# Altium schematic symbol library HW_ADHERENT_SYSCTRL_R1_L2.SCHLIB: 1987 symbols (part 37 of 38)
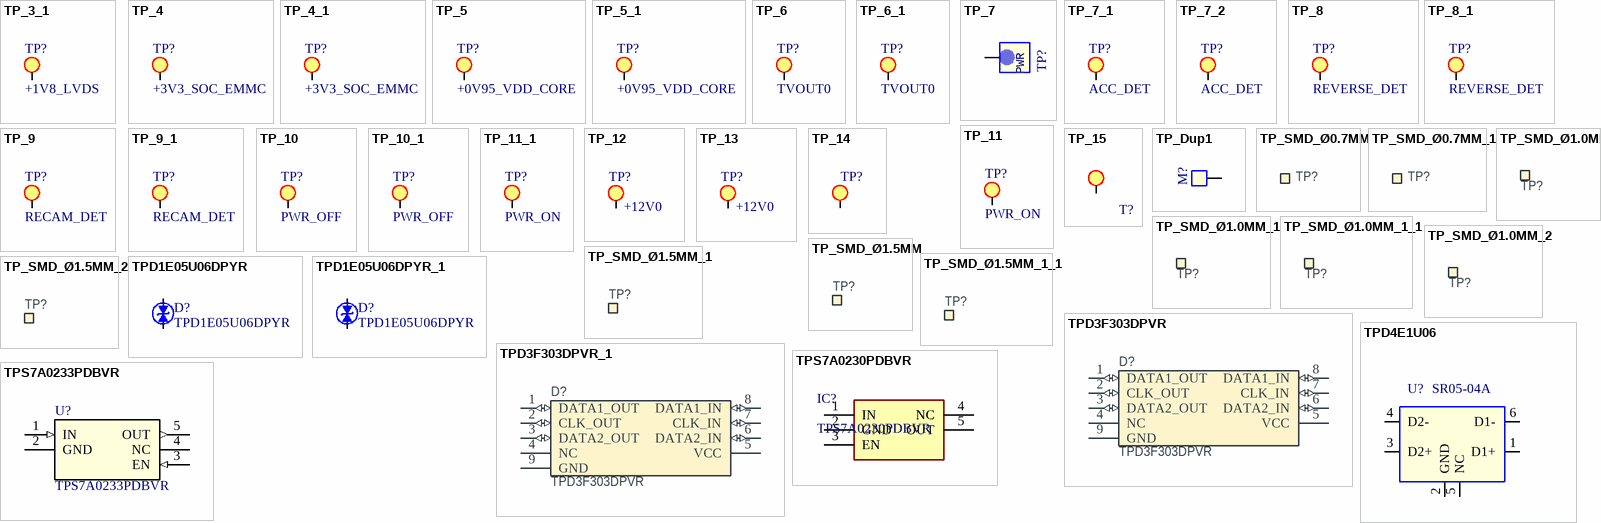
[diagram p98: symbols TP_3_1 to TPS7A0233PDBVR]

## TPD3F303DPVR_1
designator D?, comment TPD3F303DPVR
ESD Protection and EMI Filter for SIM Card Interface; Manufacturer: Texas Instruments; Part number NEMS: 101900729; Note: N.A.; Pad Count: 8; Component Status: Active; Part Number: TPD3F303DPVR; Manufacturer Part Number: TPD3F303DPVR; Footprint Doc: USON-8; LatestRevisionDate: 2022-10-19; Published: 2022-10-19; Value: TPD3F303DPVR; Artikkelnr Noca: N.A.; ComponentLink1URL: https://www.ti.com/lit/ds/symlink/tpd3f303.pdf; ComponentLink1Description: Datasheet; ComponentLink2URL: https://www.digikey.com/en/products/detail/texas-instruments/TPD3F303DPVR/2605055; ComponentLink2Description: Supplier link; HelpURL: https://www.ti.com/product/TPD3F303/part-details/TPD3F303DPVR; Supplier 1: Digi-Key; Supplier Part Number 1: 296-28299-1-ND; Supplier 2: Mouser; Supplier Part Number 2: 595-TPD3F303DPVR; Part number IPS: N.A.; PartId: 101900729; Component Class: Misc_ICs; Author: rubr; Part number Norautron: N.A.
footprint SON50P210X160X65_HS-9N
pins: 1 DATA1_OUT (io), 2 CLK_OUT (io), 3 DATA2_OUT (io), 4 NC, 5 VCC (power), 6 DATA2_IN (io), 7 CLK_IN (io), 8 DATA1_IN (io), 9 GND (power)

## TPD4E1U06
designator U?, comment SR05-04A
IC,Quad-Channel,High-Speed ESD Protection Device,SMD,SOT23-6,UN; RP1 Manufacturer P/N: TPD4E1U06DBVR; RP1 Myir P/N: 20114.00004; Myir P/N: 20114.00013; Datasheet: SR05-04A.pdf; Reserve Value: SR05-04A; Manufacturer P/N: SR05-04A; Manufacturer: UN; Part Type: Protection; PCB Footprint: SOT23-6
footprint SOT23-6
pins: 1 D1+, 2 GND, 3 D2+, 4 D2-, 5 NC, 6 D1-

## TPS7A0230PDBVR
designator IC?
Linear Voltage Regulator IC Positive Fixed 1 Output 200mA SOT-23-5; Manufacturer_Name: Texas Instruments; Datasheet Link: https://www.ti.com/lit/gpn/TPS7A02; Height: 1.45mm; Manufacturer_Part_Number: TPS7A0230PDBVR; Mouser Part Number: 595-TPS7A0230PDBVR; Mouser Price/Stock: https://www.mouser.co.uk/ProductDetail/Texas-Instruments/TPS7A0230PDBVR?qs=OlC7AqGiEDnndYJaykm%252BtA%3D%3D; Arrow Part Number: TPS7A0230PDBVR; Arrow Price/Stock: https://www.arrow.com/en/products/tps7a0230pdbvr/texas-instruments?utm_currency=USD&region=nac
footprint SOT95P280X145-5N
pins: 1 IN, 2 GND, 3 EN, 4 NC, 5 OUT

## TPS7A0233PDBVR
designator U?
200mA, nanopower-IQ (25 nA), low-dropout (LDO) voltage regulator with enable 5-SOT-23 -40 to 125; Manufacturer_Name: Texas Instruments; Copyright: Copyright (C) 2025 Ultra Librarian. All rights reserved.; Manufacturer_Part_Number: TPS7A0233PDBVR; RefDes: RefDes; Type: Type
footprint SOT23_DBV_TEX
pins: 1 IN (in), 2 GND (power), 3 EN (in), 4 NC, 5 OUT (out)

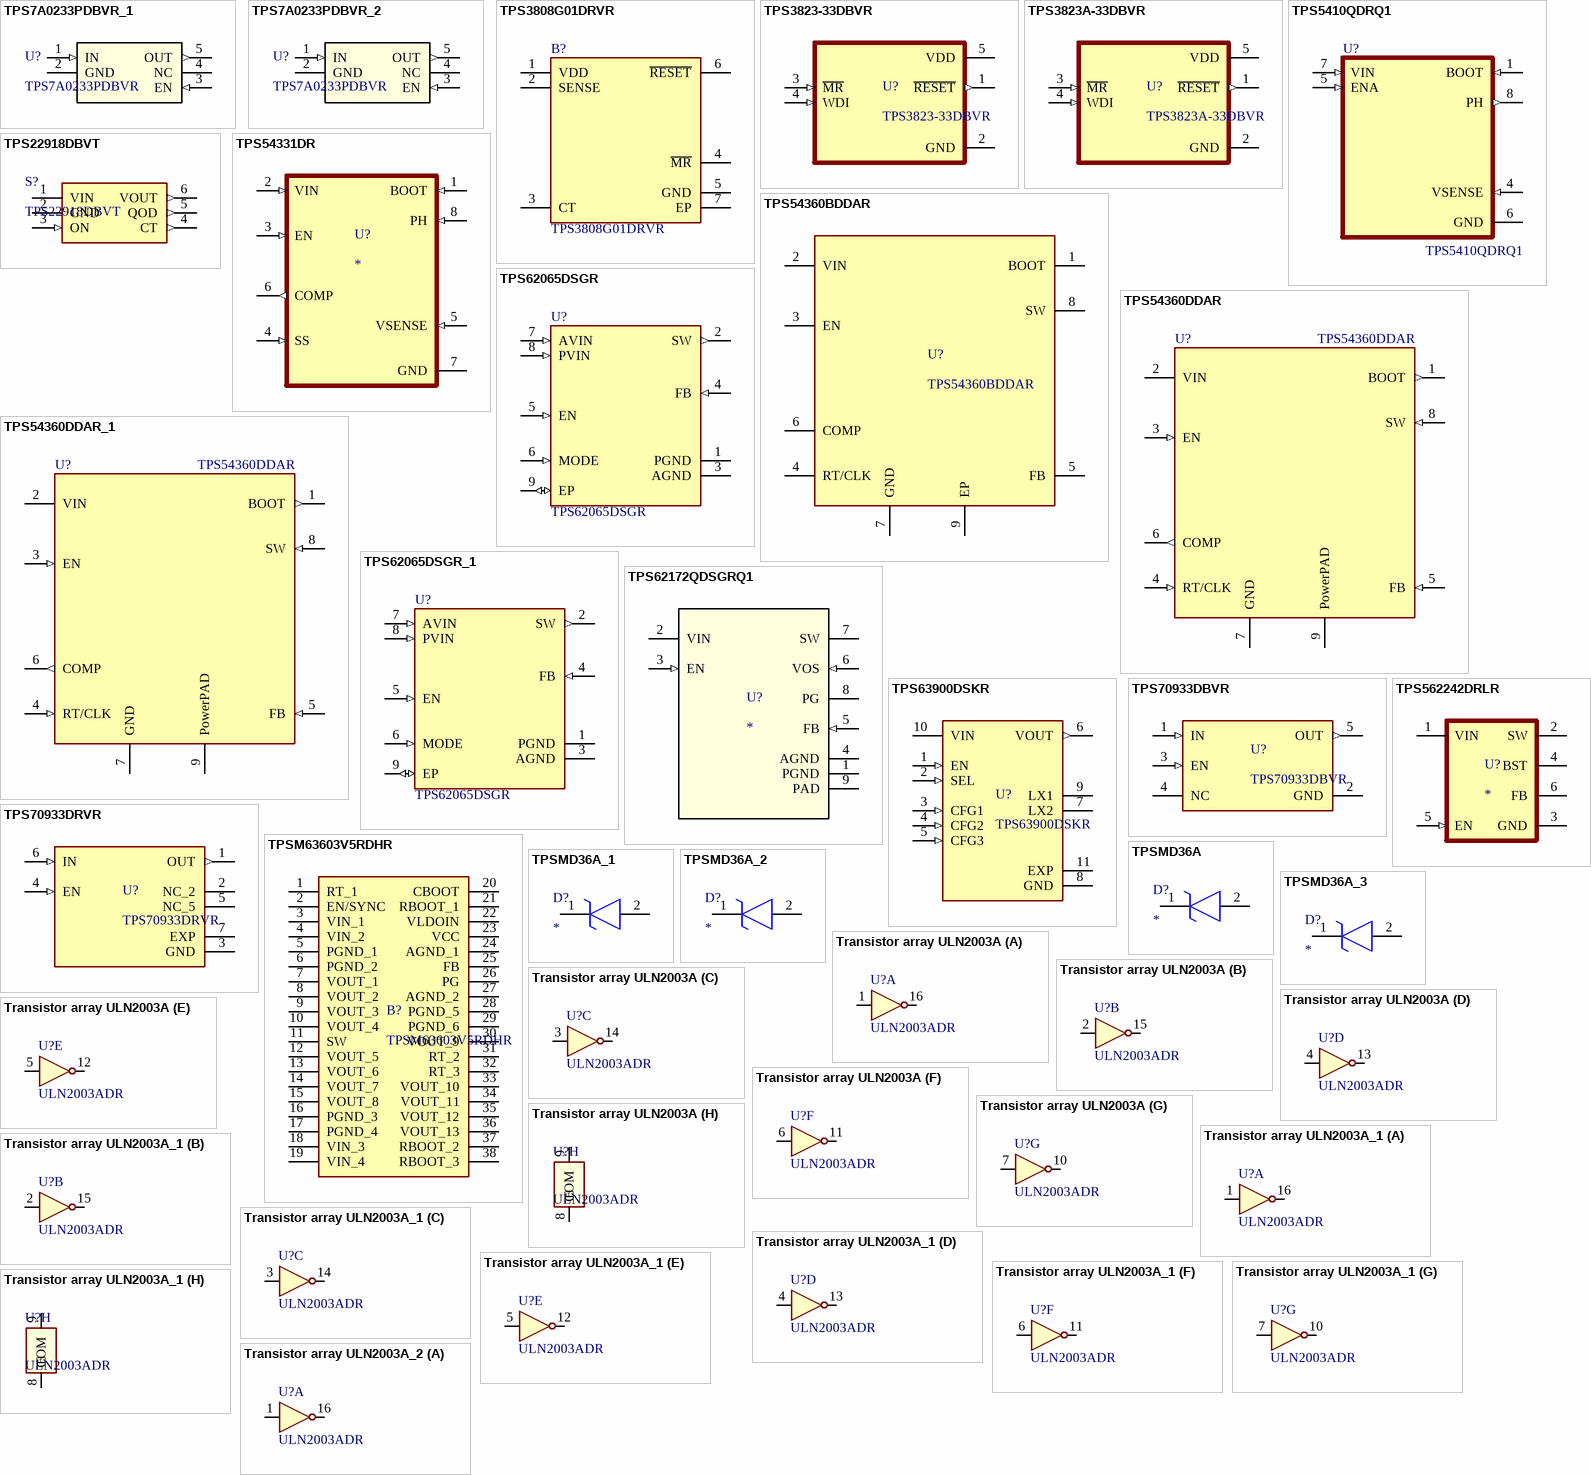
[diagram p59: symbols TPS7A0233PDBVR_1 to Transistor array ULN2003A_2]

## TPS7A0233PDBVR_1
designator U?, comment TPS7A0233PDBVR
200mA, nanopower-IQ (25 nA), low-dropout (LDO) voltage regulator with enable 5-SOT-23 -40 to 125; Manufacturer_Name: Texas Instruments; Copyright: Copyright (C) 2025 Ultra Librarian. All rights reserved.; Manufacturer_Part_Number: TPS7A0233PDBVR; RefDes: RefDes; Type: Type
footprint SOT23_DBV_TEX
pins: 1 IN (in), 2 GND (power), 3 EN (in), 4 NC, 5 OUT (out)

## TPS7A0233PDBVR_2
designator U?, comment TPS7A0233PDBVR
200mA, nanopower-IQ (25 nA), low-dropout (LDO) voltage regulator with enable 5-SOT-23 -40 to 125; Manufacturer_Name: Texas Instruments; Copyright: Copyright (C) 2025 Ultra Librarian. All rights reserved.; Manufacturer_Part_Number: TPS7A0233PDBVR; RefDes: RefDes; Type: Type
footprint SOT23_DBV_TEX
pins: 1 IN (in), 2 GND (power), 3 EN (in), 4 NC, 5 OUT (out)

## TPS3808G01DRVR
designator B?
Low-quiescent current supervisor with programmable-delay and manual reset; Manufacturer_Name: Texas Instruments; Geometry.Height: 0.8mm; Manufacturer Part Number: TPS3808G01DRVR; Mouser Part Number: 595-TPS3808G01DRVR; Mouser Price/Stock: https://www.mouser.co.uk/ProductDetail/Texas-Instruments/TPS3808G01DRVR?qs=nRD1PKnFC2FrHLBhWUTt4Q%3D%3D; Arrow Part Number: TPS3808G01DRVR; Arrow Price/Stock: https://www.arrow.com/en/products/tps3808g01drvr/texas-instruments?region=nac; Datasheet Link: http://www.ti.com/lit/gpn/tps3808
footprint SON65P200X200X80-7N
pins: 1 VDD, 2 SENSE, 3 CT, 4 ~{MR}, 5 GND, 6 ~{RESET}, 7 EP

## TPS3823-33DBVR
designator U?
Active-low, push-pull, voltage supervisor (reset IC) with 1.6-s watchdog & manual reset; MF: Texas Instruments; SnapEDA_Link: https://www.snapeda.com/parts/TPS3823-33DBVR/Texas+Instruments/view-part/?ref=snap; Package: SOT-23-5 Texas Instruments; Value: *; MP: TPS3823-33DBVR; Check_prices: https://www.snapeda.com/parts/TPS3823-33DBVR/Texas+Instruments/view-part/?ref=eda
footprint SOT95P280X145-5N
pins: 1 ~{RESET} (out), 2 GND (power), 3 ~{MR} (in), 4 WDI (in), 5 VDD (power)

## TPS3823A-33DBVR
designator U?
MF: {'manufacturer': u'Texas Instruments'}; Package: None; Price: None; Value: *; MP: TPS3823A-33DBVR; Availability: Unavailable
footprint SOT95P280X145-5N
pins: 1 ~{RESET} (out), 2 GND (power), 3 ~{MR} (in), 4 WDI (in), 5 VDD (power)

## TPS5410QDRQ1
designator U?, comment Manufacturer Part Number: TPS5410QDRQ1  (hidden comment: IC REG BUCK ADJUSTABLE 1A 8SOIC)
Automotive 5.5V to 36V, 500kHz Fixed Frequency 1A Buck Converter 8-SOIC -40 to 125; MF: Texas Instruments; Value: *; Arrow_Electronics-Purchase-URL: https://snapeda.com/shop?store=Arrow+Electronics&id=1232664; Price: None; Availability: Good; Mouser-Purchase-URL: https://snapeda.com/shop?store=Mouser&id=1232664; Texas_Instruments-Purchase-URL: https://snapeda.com/shop?store=Texas+Instruments&id=1232664; SnapEDA_Link: https://www.snapeda.com/parts/TPS5410QDRQ1/Texas%20Instruments/view-part/1232664/?ref=snap; Package: SOIC-8 Texas Instruments
footprint SOIC127P599X175-8N
pins: 1 BOOT (in), 4 VSENSE (in), 5 ENA (in), 6 GND (power), 7 VIN (in), 8 PH (out)

## TPS22918DBVT
designator S?
Power Switch/Driver 1:1 N-Channel 2A SOT-23-6; Manufacturer_Name: Texas Instruments; Datasheet Link: http://www.ti.com/lit/gpn/tps22918; Height: 1.45mm; Manufacturer_Part_Number: TPS22918DBVT; Mouser Part Number: 595-TPS22918DBVT; Mouser Price/Stock: https://www.mouser.co.uk/ProductDetail/Texas-Instruments/TPS22918DBVT?qs=f4l5qYp%2Fy%252B5OmR4LO0ZvPg%3D%3D; Arrow Part Number: TPS22918DBVT; Arrow Price/Stock: https://www.arrow.com/en/products/tps22918dbvt/texas-instruments.html?utm_currency=USD&region=nac
footprint SOT95P280X145-6N
pins: 1 VIN (power), 2 GND (power), 3 ON (in), 4 CT (out), 5 QOD (out), 6 VOUT (out)

## TPS54331DR
designator U?
3.5V to 28V Input, 3A, 570kHz Step-Down Converter with Eco-mode; MF: Texas Instruments; MP: TPS54331DR; Purchase-URL: https://pricing.snapeda.com/search/part/TPS54331DR/?ref=eda; Package: SOIC-8 Texas Instruments; Price: None; Availability: In Stock; Value: *
footprint SOIC127P599X175-8N
pins: 1 BOOT (in), 2 VIN (in), 3 EN (in), 4 SS (in), 5 VSENSE (in), 6 COMP (out), 7 GND (power), 8 PH (in)

## TPS54360BDDAR
designator U?
60-V input, 3.5-A, step-down DC/DC converter with Eco-Mode™ 8-SO PowerPAD -40 to 150; Manufacturer: Texas Instruments; Supplier 1: Digikey; Manufacturer Part Number: TPS54360BDDAR; RoHS: Yes; Category: Voltage Regulators - Switching; Stock 1: 2500; Pricing 1: 2500=2.34003 (USD); ComponentLink1URL: http://www.ti.com/general/docs/suppproductinfo.tsp?distId=10&amp;gotoUrl=http%3A%2F%2Fwww.ti.com%2Flit%2Fgpn%2Ftps54360b&src-supplier=Digikey; ComponentLink1Description: http://www.ti.com/general/docs/suppproductinfo.tsp?distId=10&amp;gotoUrl=http%3A%2F%2Fwww.ti.com%2Flit%2Fgpn%2Ftps54360b&src-supplier=Digikey; Supplier Part Number 1: 296-TPS54360BDDARTR-ND
footprint SOIC127P600X170-9N
pins: 1 BOOT, 2 VIN, 3 EN, 4 RT/CLK, 5 FB, 6 COMP, 7 GND, 8 SW, 9 EP

## TPS54360DDAR
designator U?
Buck, Split Rail Switching Regulator IC Positive Adjustable 0.8V 1 Output 3.5A 8-PowerSOIC (0.154", 3.90mm Width); Order Code: Digi: 296-37676-2-ND; LCSC Manufacturer Part Number: TPS54360DDAR; LCSC Part Number: C44377; Manufacturer Part Number: TPS54360DDAR
footprint S8E_LT
pins: 1 BOOT (out), 2 VIN (power), 3 EN (in), 4 RT/CLK (in), 5 FB (in), 6 COMP (out), 7 GND (power), 8 SW (in), 9 PowerPAD (power)

## TPS54360DDAR_1
designator U?, comment TPS54360DDAR
Buck, Split Rail Switching Regulator IC Positive Adjustable 0.8V 1 Output 3.5A 8-PowerSOIC (0.154", 3.90mm Width); Order Code: Digi: 296-37676-2-ND; LCSC Manufacturer Part Number: TPS54360DDAR; LCSC Part Number: C44377; Manufacturer Part Number: TPS54360DDAR
footprint S8E_LT
pins: 1 BOOT (out), 2 VIN (power), 3 EN (in), 4 RT/CLK (in), 5 FB (in), 6 COMP (out), 7 GND (power), 8 SW (in), 9 PowerPAD (power)

## TPS62065DSGR
designator U?, comment Manufacturer Part Number: TPS62065DSGR  (hidden comment: IC REG BUCK ADJUSTABLE 2A 8WSON)
Buck Switching Regulator IC Positive Adjustable 0.8V 1 Output 2A 8-WFDFN Exposed Pad; Order Code: Digi: 296-39441-2-ND; LCSC Manufacturer Part Number: TPS62065DSGR; LCSC Part Number: C398352
footprint SON50P200X200X80-9N
pins: 1 PGND (power), 2 SW (out), 3 AGND (power), 4 FB (in), 5 EN (in), 6 MODE (in), 7 AVIN (in), 8 PVIN (in), 9 EP (io)

## TPS62065DSGR_1
designator U?, comment Manufacturer Part Number: TPS62065DSGR  (hidden comment: IC REG BUCK ADJUSTABLE 2A 8WSON)
Buck Switching Regulator IC Positive Adjustable 0.8V 1 Output 2A 8-WFDFN Exposed Pad; Order Code: Digi: 296-39441-2-ND; LCSC Manufacturer Part Number: TPS62065DSGR; LCSC Part Number: C398352
footprint SON50P200X200X80-9N
pins: 1 PGND (power), 2 SW (out), 3 AGND (power), 4 FB (in), 5 EN (in), 6 MODE (in), 7 AVIN (in), 8 PVIN (in), 9 EP (io)

## TPS62172QDSGRQ1
designator U?
No Description Available; Mfr_Name: Texas Instruments; PartNumber: TPS62172QDSGRQ1; Alternate_PartNumber: TPS62172QDSGTQ1; CompType: IC; TYPE: TYPE; RefDes: RefDes; Application_BuildNumber: *; PackageReference: DSG0008A; MountType: SMT; RoHS: Y; Manufacturer: Texas Instruments
footprint DSG0008A
pins: 1 PGND (power), 2 VIN (power), 3 EN (in), 4 AGND (power), 5 FB (in), 6 VOS (in), 7 SW (power), 8 PG (hiz), 9 PAD (power)

## TPS63900DSKR
designator U?
1.8-V to 5.5-V, 75-nA IQ buck-boost converter with input current limit and Dynamic Voltage Scaling; MF: Texas Instruments; SnapEDA_Link: https://www.snapeda.com/parts/TPS63900DSKR/Texas+Instruments/view-part/?ref=snap; Package: WSON-10 Texas Instruments; Value: *; MP: TPS63900DSKR; Check_prices: https://www.snapeda.com/parts/TPS63900DSKR/Texas+Instruments/view-part/?ref=eda
footprint IC_TPS63900DSKR
pins: 1 EN (in), 2 SEL (in), 3 CFG1 (in), 4 CFG2 (in), 5 CFG3 (in), 6 VOUT (out), 7 LX2, 8 GND (power), 9 LX1, 10 VIN (power), 11 EXP (power)

## TPS70933DBVR
designator U?
150-mA, 30-V, ultra-low-IQ, low-dropout voltage regulator with reverse current protection and enable; MF: Texas Instruments; SnapEDA_Link: https://www.snapeda.com/parts/TPS70933DBVR/Texas+Instruments/view-part/?ref=snap; Package: SOT-23-5 Texas Instruments; Value: *; MP: TPS70933DBVR; Check_prices: https://www.snapeda.com/parts/TPS70933DBVR/Texas+Instruments/view-part/?ref=eda; LCSC: C89347
footprint SOT95P280X145-5N
pins: 1 IN (in), 2 GND (power), 3 EN (in), 4 NC, 5 OUT (out)

## TPS70933DRVR
designator U?
150-mA, 30-V, ultra-low-IQ, low-dropout voltage regulator with reverse current protection and enable; MF: Texas Instruments; SnapEDA_Link: https://www.snapeda.com/parts/TPS70933DRVR/Texas+Instruments/view-part/?ref=snap; Package: WSON-6 Texas Instruments; Value: *; MP: TPS70933DRVR; Check_prices: https://www.snapeda.com/parts/TPS70933DRVR/Texas+Instruments/view-part/?ref=eda; LCSC: C165164
footprint SON65P200X200X80-7N
pins: 1 OUT (out), 2 NC_2, 3 GND (power), 4 EN (in), 5 NC_5, 6 IN (in), 7 EXP (power)

## TPS562242DRLR
designator U?
3-V to 17-V input voltage, 2-A, 1.4-MHz synchronous buck converter in SOT563; MF: Texas Instruments; MP: TPS562242DRLR; SnapEDA_Link: https://www.snapeda.com/parts/TPS562242DRLR/Texas+Instruments/view-part/?ref=snap; Package: SOT-5X3-6 Texas Instruments; Value: *; Check_prices: https://www.snapeda.com/parts/TPS562242DRLR/Texas+Instruments/view-part/?ref=eda
footprint SOT50P160X60-6N
pins: 1 VIN (power), 2 SW (power), 3 GND (power), 4 BST, 5 EN (in), 6 FB

## TPSM63603V5RDHR
designator B?
High-density, 3-V to 36-V input, 1-V to 16-V output, 3-A power module 30-B0QFN -40 to 125; Manufacturer: Texas Instruments; Supplier 1: Digikey; Manufacturer Part Number: TPSM63603V5RDHR; RoHS: No; Category: Integrated Circuits (ICs); Stock 1: 2582; Pricing 1: 1=8.77, 10=7.926, 25=7.5572, 100=6.562, 250=6.26704, 500=5.71408, 1000=4.97678 (USD); Supplier Part Number 1: 296-TPSM63603V5RDHRDKR-ND
footprint TPSM63603V5RDHR
pins: 1 RT_1, 2 EN/SYNC, 3 VIN_1, 4 VIN_2, 5 PGND_1, 6 PGND_2, 7 VOUT_1, 8 VOUT_2, 9 VOUT_3, 10 VOUT_4, 11 SW, 12 VOUT_5, 13 VOUT_6, 14 VOUT_7, 15 VOUT_8, 16 PGND_3, 17 PGND_4, 18 VIN_3, 19 VIN_4, 20 CBOOT, 21 RBOOT_1, 22 VLDOIN, 23 VCC, 24 AGND_1, 25 FB, 26 PG, 27 AGND_2, 28 PGND_5, 29 PGND_6, 30 VOUT_9, 31 RT_2, 32 RT_3, 33 VOUT_10, 34 VOUT_11, 35 VOUT_12, 36 VOUT_13, 37 RBOOT_2, 38 RBOOT_3

## TPSMD36A
designator D?
TVS Diode (Uni-directional); Manufacturer_Name: LITTELFUSE; Manufacturer_Part_Number: TPSMD36A; Datasheet Link: https://m.littelfuse.com/~/media/electronics/datasheets/tvs_diodes/littelfuse_tvs_diode_tpsmd_datasheet.pdf.pdf; Height: 2.62mm; Mouser Part Number: 576-TPSMD36A; Mouser Price/Stock: https://www.mouser.co.uk/ProductDetail/Littelfuse/TPSMD36A/?qs=aB6s9aM%2FkvTMcsXSVOJYGg%3D%3D; Arrow Part Number: TPSMD36A; Arrow Price/Stock: https://www.arrow.com/en/products/tpsmd36a/littelfuse
footprint DIOM7959X262N
pins: 1 K, 2 A

## TPSMD36A_1
designator D?
TVS Diode (Uni-directional); Manufacturer_Name: LITTELFUSE; Manufacturer_Part_Number: TPSMD36A; Datasheet Link: https://m.littelfuse.com/~/media/electronics/datasheets/tvs_diodes/littelfuse_tvs_diode_tpsmd_datasheet.pdf.pdf; Height: 2.62mm; Mouser Part Number: 576-TPSMD36A; Mouser Price/Stock: https://www.mouser.co.uk/ProductDetail/Littelfuse/TPSMD36A/?qs=aB6s9aM%2FkvTMcsXSVOJYGg%3D%3D; Arrow Part Number: TPSMD36A; Arrow Price/Stock: https://www.arrow.com/en/products/tpsmd36a/littelfuse
footprint DIOM7959X262N
pins: 1 K, 2 A

## TPSMD36A_2
designator D?
TVS Diode (Uni-directional); Manufacturer_Name: LITTELFUSE; Manufacturer_Part_Number: TPSMD36A; Datasheet Link: https://m.littelfuse.com/~/media/electronics/datasheets/tvs_diodes/littelfuse_tvs_diode_tpsmd_datasheet.pdf.pdf; Height: 2.62mm; Mouser Part Number: 576-TPSMD36A; Mouser Price/Stock: https://www.mouser.co.uk/ProductDetail/Littelfuse/TPSMD36A/?qs=aB6s9aM%2FkvTMcsXSVOJYGg%3D%3D; Arrow Part Number: TPSMD36A; Arrow Price/Stock: https://www.arrow.com/en/products/tpsmd36a/littelfuse
footprint DIOM7959X262N
pins: 1 K, 2 A

## TPSMD36A_3
designator D?
TVS Diode (Uni-directional); Manufacturer_Name: LITTELFUSE; Manufacturer_Part_Number: TPSMD36A; Datasheet Link: https://m.littelfuse.com/~/media/electronics/datasheets/tvs_diodes/littelfuse_tvs_diode_tpsmd_datasheet.pdf.pdf; Height: 2.62mm; Mouser Part Number: 576-TPSMD36A; Mouser Price/Stock: https://www.mouser.co.uk/ProductDetail/Littelfuse/TPSMD36A/?qs=aB6s9aM%2FkvTMcsXSVOJYGg%3D%3D; Arrow Part Number: TPSMD36A; Arrow Price/Stock: https://www.arrow.com/en/products/tpsmd36a/littelfuse
footprint DIOM7959X262N
pins: 1 K, 2 A

## Transistor array ULN2003A
designator U?, comment ULN2003ADR
IC PWR RELAY 7NPN 1:1 16SOIC; Manufacturer: Texas Instruments; Value: ULN2003ADR; Manufacturer Part Number: ULN2003ADR; Supplier Part Number: 296-1368-1-ND
footprint SOIC-16 - W3.9mm (SI8631AB-B-IS1)
part A pins: 1 1B, 16 2C
part B pins: 2 2B, 15 2C
part C pins: 3 3B, 14 3C
part D pins: 4 4B, 13 4C
part E pins: 5 5B, 12 5C
part F pins: 6 6B, 11 6C
part G pins: 7 7B, 10 7C
part H pins: 8 E, 9 COM

## Transistor array ULN2003A_1
designator U?, comment ULN2003ADR
IC PWR RELAY 7NPN 1:1 16SOIC; Manufacturer: Texas Instruments; Value: ULN2003ADR; Manufacturer Part Number: ULN2003ADR; Supplier Part Number: 296-1368-1-ND
footprint SOIC-16 - W3.9mm (SI8631AB-B-IS1)
part A pins: 1 1B, 16 2C
part B pins: 2 2B, 15 2C
part C pins: 3 3B, 14 3C
part D pins: 4 4B, 13 4C
part E pins: 5 5B, 12 5C
part F pins: 6 6B, 11 6C
part G pins: 7 7B, 10 7C
part H pins: 8 E, 9 COM

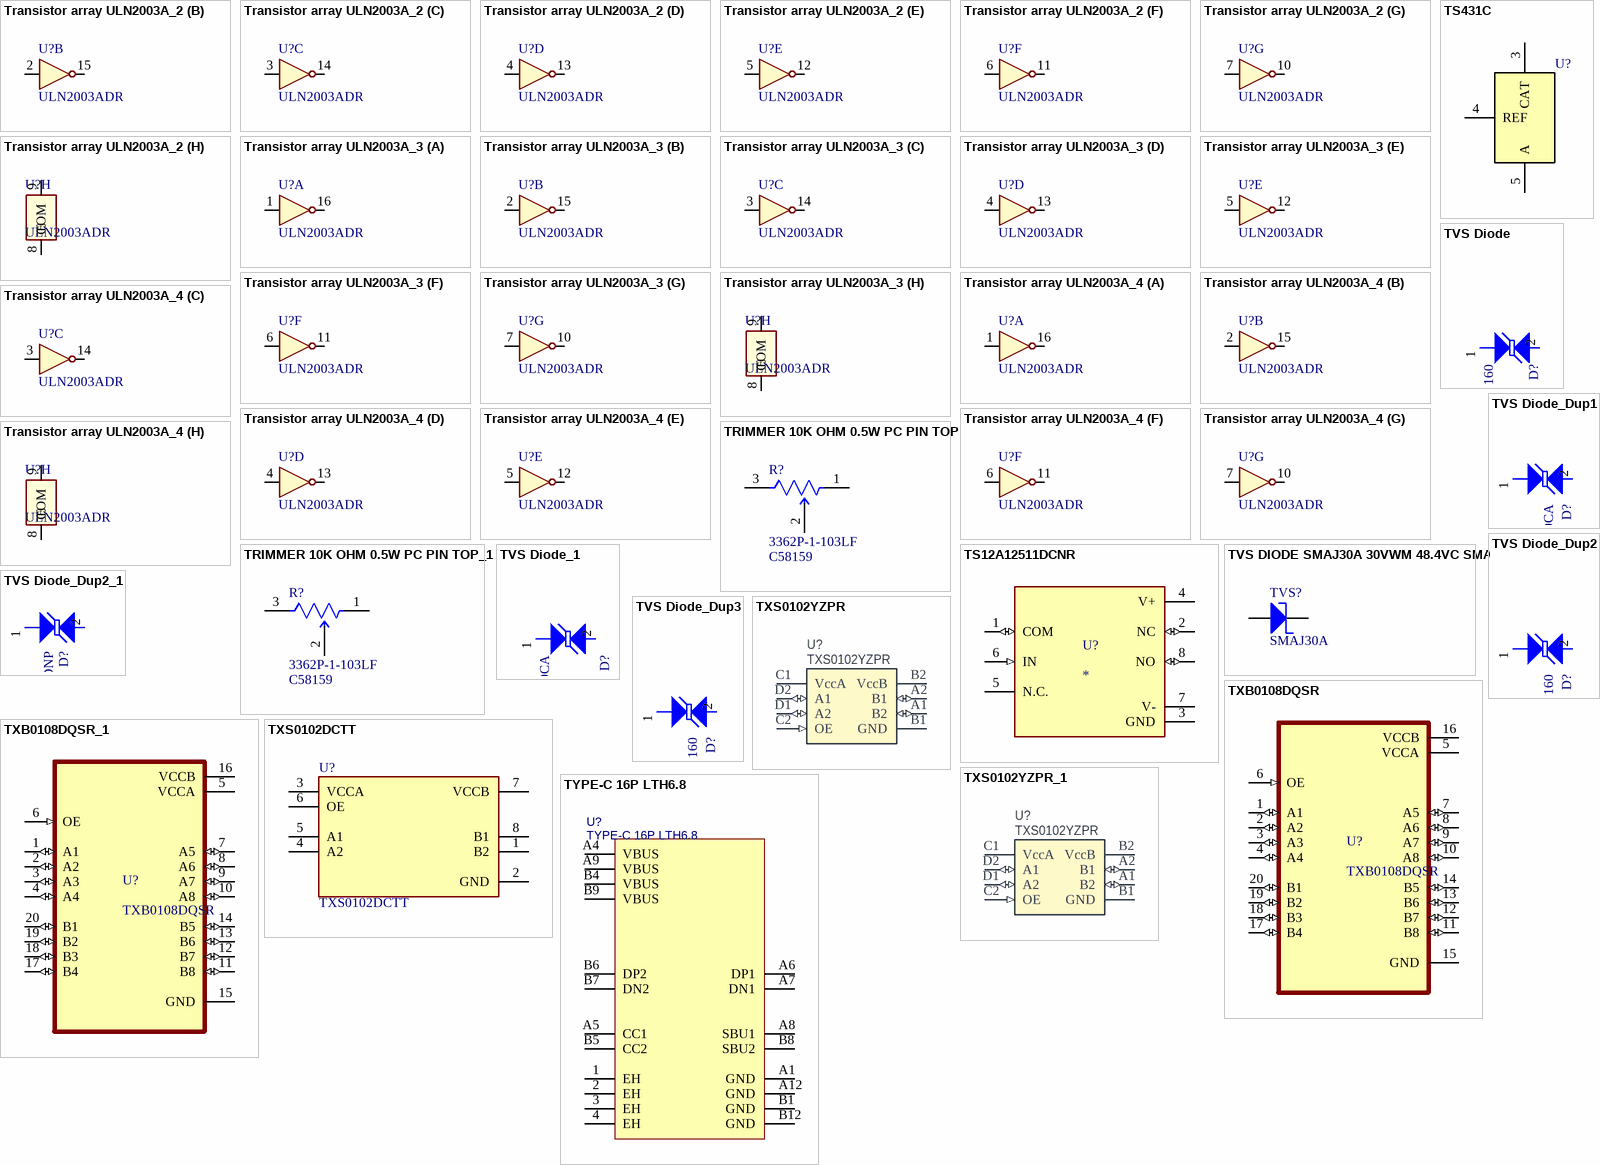
[diagram p60: symbols Transistor array ULN2003A_2 to TYPE-C 16P LTH6.8]

## Transistor array ULN2003A_2
designator U?, comment ULN2003ADR
IC PWR RELAY 7NPN 1:1 16SOIC; Manufacturer: Texas Instruments; Value: ULN2003ADR; Manufacturer Part Number: ULN2003ADR; Supplier Part Number: 296-1368-1-ND
footprint SOIC-16 - W3.9mm (SI8631AB-B-IS1)
part A pins: 1 1B, 16 2C
part B pins: 2 2B, 15 2C
part C pins: 3 3B, 14 3C
part D pins: 4 4B, 13 4C
part E pins: 5 5B, 12 5C
part F pins: 6 6B, 11 6C
part G pins: 7 7B, 10 7C
part H pins: 8 E, 9 COM

## Transistor array ULN2003A_3
designator U?, comment ULN2003ADR
IC PWR RELAY 7NPN 1:1 16SOIC; Manufacturer: Texas Instruments; Value: ULN2003ADR; Manufacturer Part Number: ULN2003ADR; Supplier Part Number: 296-1368-1-ND
footprint SOIC-16 - W3.9mm (SI8631AB-B-IS1)
part A pins: 1 1B, 16 2C
part B pins: 2 2B, 15 2C
part C pins: 3 3B, 14 3C
part D pins: 4 4B, 13 4C
part E pins: 5 5B, 12 5C
part F pins: 6 6B, 11 6C
part G pins: 7 7B, 10 7C
part H pins: 8 E, 9 COM

## Transistor array ULN2003A_4
designator U?, comment ULN2003ADR
IC PWR RELAY 7NPN 1:1 16SOIC; Manufacturer: Texas Instruments; Value: ULN2003ADR; Manufacturer Part Number: ULN2003ADR; Supplier Part Number: 296-1368-1-ND
footprint SOIC-16 - W3.9mm (SI8631AB-B-IS1)
part A pins: 1 1B, 16 2C
part B pins: 2 2B, 15 2C
part C pins: 3 3B, 14 3C
part D pins: 4 4B, 13 4C
part E pins: 5 5B, 12 5C
part F pins: 6 6B, 11 6C
part G pins: 7 7B, 10 7C
part H pins: 8 E, 9 COM

## TRIMMER 10K OHM 0.5W PC PIN TOP
designator R?  Manufacturer Part Number: 3362P-1-103LF  LCSC Part Number: C58159  (hidden comment: TRIMMER 10K OHM 0.5W PC PIN TOP)
10 kOhms 0.5W, 1/2W PC Pins Through Hole Trimmer Potentiometer Cermet 1.0 Turn Top Adjustment
footprint Bourns_3386P_MFG
pins: 1 CCW, 2 WIPER, 3 CW

## TRIMMER 10K OHM 0.5W PC PIN TOP_1
designator R?, comment Manufacturer Part Number: 3362P-1-103LF  LCSC Part Number: C58159  (hidden comment: TRIMMER 10K OHM 0.5W PC PIN TOP)
10 kOhms 0.5W, 1/2W PC Pins Through Hole Trimmer Potentiometer Cermet 1.0 Turn Top Adjustment
footprint Bourns_3386P_MFG
pins: 1 CCW, 2 WIPER, 3 CW

## TS12A12511DCNR
designator U?
12-V, 2:1 (SPDT), 1-channel analog switch with negative signaling capability; MF: Texas Instruments; MP: TS12A12511DCNR; SnapEDA_Link: https://www.snapeda.com/parts/TS12A12511DCNR/Texas+Instruments/view-part/?ref=snap; Package: SOT-23-8 Texas Instruments; Value: *; Check_prices: https://www.snapeda.com/parts/TS12A12511DCNR/Texas+Instruments/view-part/?ref=eda
footprint SOT65P280X145-8N
pins: 1 COM (io), 2 NC (io), 3 GND (power), 4 V+ (power), 5 N.C., 6 IN (in), 7 V- (power), 8 NO (io)

## TS431C
designator U?
footprint SOT-25
pins: 3 CAT, 4 REF, 5 A

## TVS Diode
designator D?, comment B72590D50H160
Diode,TVS,5.6VDC,SMD,D0402,TDK; Myir P/N: 20701.00001; Part Type: Diode; Manufacturer: TDK; Manufacturer P/N: B72590D50H160; Reserve Value: B72590D50H160; Datasheet: B72590D0050H160.pdf; PCB Footprint: D0402
footprint L16214
footprint D0402
pins: 1, 2

## TVS DIODE SMAJ30A 30VWM 48.4VC SMA
designator TVS?  value SMAJ30A  (hidden comment: TVS DIODE SMAJ30A 30VWM 48.4VC SMA)
Manufacturer: LITTELFUSE; Code: 3040004; Family: DIODE; Manufacturer Part Name: SMAJ30A; Package Reference: DO214AC; Supplier: Digikey; Supplier No: SMAJ30ALFDKR-ND
footprint DO214AC (DO-214-AC/SMA; 2 C-Bend Leads; Body 5.3 x 2.6 mm, inc. leads (LxW))
pins: 1 A, 2 K

## TVS Diode_1
designator D?, comment SMBJ6.0CA
Diode, TVS Bi-Dir 6V 600W, DO-214AA(SMB); Manufacturer: UN; Myir P/N: 20701.00028; PCB Footprint: DO-214AA; Part Type: Diode; Manufacturer P/N: SMBJ6.0CA; Reserve Value: SMBJ6.0CA; Datasheet: SMBJ6.0C.pdf
footprint L16214
footprint DO-214AA
pins: 1, 2

## TVS Diode_Dup1
designator D?, comment SMBJ6.0CA
Diode, TVS Bi-Dir 6V 600W, DO-214AA(SMB); Manufacturer: UN; Myir P/N: 20701.00028; Datasheet: SMBJ6.0C.pdf; Reserve Value: SMBJ6.0CA; Manufacturer P/N: SMBJ6.0CA; Part Type: Diode; PCB Footprint: do-214aa
footprint L16214
footprint do-214aa
pins: 1, 2

## TVS Diode_Dup2
designator D?, comment B72590D50H160
Diode,TVS,5.6VDC,SMD,D0402,TDK; Myir P/N: 20701.00001; Datasheet: B72590D0050H160.pdf; Reserve Value: B72590D50H160; Manufacturer P/N: B72590D50H160; Manufacturer: TDK; Part Type: Diode; PCB Footprint: D0402
footprint L16214
footprint D0402
pins: 1, 2

## TVS Diode_Dup2_1
designator D?, comment DNP
Diode,TVS,5.6VDC,SMD,D0402,TDK; Manufacturer P/N: B72590D50H160; Myir P/N: 20701.00001; Part Type: Diode; Manufacturer: TDK; Reserve Value: B72590D50H160; Datasheet: B72590D0050H160.pdf; PCB Footprint: D0402
footprint L16214
footprint D0402
pins: 1, 2

## TVS Diode_Dup3
designator D?, comment B72590D50H160
Diode,TVS,5.6VDC,SMD,D0402,TDK; Myir P/N: 20701.00001; PCB Footprint: D0402; Part Type: Diode; Manufacturer: TDK; Manufacturer P/N: B72590D50H160; Reserve Value: B72590D50H160; Datasheet: B72590D0050H160.pdf
footprint L16214
footprint D0402
pins: 1, 2

## TXB0108DQSR
designator U?
8-Bit Bidirectional Voltage-Level Shifter with Auto Direction Sensing and +/-15-kV ESD Protect 20-USON -40 to 85; MF: Texas Instruments; Availability: In Stock; Value: *; Check_prices: https://www.snapeda.com/parts/TXB0108DQSR/Texas+Instruments/view-part/?ref=eda; SnapEDA_Link: https://www.snapeda.com/parts/TXB0108DQSR/Texas+Instruments/view-part/?ref=snap; Price: None; Purchase-URL: https://pricing.snapeda.com/search/part/TXB0108DQSR/?ref=eda; Package: SON-20 Texas Instruments; MP: TXB0108DQSR
footprint SON40P400X200X55-20N
pins: 1 A1 (io), 2 A2 (io), 3 A3 (io), 4 A4 (io), 5 VCCA (power), 6 OE (in), 7 A5 (io), 8 A6 (io), 9 A7 (io), 10 A8 (io), 11 B8 (io), 12 B7 (io), 13 B6 (io), 14 B5 (io), 15 GND (power), 16 VCCB (power), 17 B4 (io), 18 B3 (io), 19 B2 (io), 20 B1 (io)

## TXB0108DQSR_1
designator U?, comment TXB0108DQSR
8-Bit Bidirectional Voltage-Level Shifter with Auto Direction Sensing and +/-15-kV ESD Protect 20-USON -40 to 85; MF: Texas Instruments; Availability: In Stock; Value: *; Check_prices: https://www.snapeda.com/parts/TXB0108DQSR/Texas+Instruments/view-part/?ref=eda; SnapEDA_Link: https://www.snapeda.com/parts/TXB0108DQSR/Texas+Instruments/view-part/?ref=snap; Price: None; Purchase-URL: https://pricing.snapeda.com/search/part/TXB0108DQSR/?ref=eda; Package: SON-20 Texas Instruments; MP: TXB0108DQSR
footprint SON40P400X200X55-20N
pins: 1 A1 (io), 2 A2 (io), 3 A3 (io), 4 A4 (io), 5 VCCA (power), 6 OE (in), 7 A5 (io), 8 A6 (io), 9 A7 (io), 10 A8 (io), 11 B8 (io), 12 B7 (io), 13 B6 (io), 14 B5 (io), 15 GND (power), 16 VCCB (power), 17 B4 (io), 18 B3 (io), 19 B2 (io), 20 B1 (io)

## TXS0102DCTT
designator U?
2-Bit Bidirectional Voltage-Level Shifter for Open-Drain and Push-Pull Application; Manufacturer_Name: Texas Instruments; Geometry.Height: 1.3mm; Manufacturer Part Number: TXS0102DCTT; Mouser Part Number: 595-TXS0102DCTT; Mouser Price/Stock: https://www.mouser.co.uk/ProductDetail/Texas-Instruments/TXS0102DCTT?qs=BWabSxB1G9dXmadXua3JhQ%3D%3D; Arrow Part Number: TXS0102DCTT; Arrow Price/Stock: https://www.arrow.com/en/products/txs0102dctt/texas-instruments?region=nac; Datasheet Link: https://www.ti.com/lit/gpn/TXS0102
footprint SOP65P400X130-8N
pins: 1 B2, 2 GND, 3 VCCA, 4 A2, 5 A1, 6 OE, 7 VCCB, 8 B1

## TXS0102YZPR
designator U?
Voltage Level Translator Bidirectional 1 Circuit 2 Channel 24Mbps 8-DSBGA; Manufacturer: Texas Instruments; Part number NEMS: 101900724; Pad Count: 8; Note: TEXAS INSTRUMENTS - TXS0102YZTR - IC, TRANSLATOR; Artikkelnr Noca: N.A.; Component Status: Active; Part Number: TXS0102YZPR; Component Class: Misc_ICs; Author: rsk; Manufacturer Part Number: TXS0102YZPR; ComponentLink1URL: https://www.ti.com/lit/gpn/txs0102; ComponentLink1Description: Datasheet; ComponentLink2URL: https://www.digikey.com/en/products/detail/texas-instruments/TXS0102YZPR/1629105; ComponentLink2Description: Supplier link; HelpURL: https://www.ti.com/product/TXS0102; Footprint Doc: UFBGA-8; LatestRevisionDate: 2022-10-05; Published: 2022-10-05; Value: TXS0102YZPR; Supplier 1: Digi-Key; Supplier Part Number 1: 296-TXS0102YZPRCT-ND; Supplier 2: Mouser; Supplier Part Number 2: 595-TXS0102YZPR; Part number IPS: N.A.; Part number Norautron: N.A.; PartId: 101900724
footprint BGA8C50P2X4_89X189X50
pins: A1 B2 (io) "SDA_B", A2 B1 (io) "SCL_B", B1 GND (power), B2 VccB (power) "B port Vcc", C1 VccA (power) "A port power", C2 OE (in) "Enable (OE) with respect to VccA. Max 4.6V", D1 A2 (io) "SDA_A", D2 A1 (io) "SCL_A"

## TXS0102YZPR_1
designator U?, comment TXS0102YZPR
Voltage Level Translator Bidirectional 1 Circuit 2 Channel 24Mbps 8-DSBGA; Manufacturer: Texas Instruments; Part number NEMS: 101900724; Pad Count: 8; Note: TEXAS INSTRUMENTS - TXS0102YZTR - IC, TRANSLATOR; Artikkelnr Noca: N.A.; Component Status: Active; Part Number: TXS0102YZPR; Component Class: Misc_ICs; Author: rsk; Manufacturer Part Number: TXS0102YZPR; ComponentLink1URL: https://www.ti.com/lit/gpn/txs0102; ComponentLink1Description: Datasheet; ComponentLink2URL: https://www.digikey.com/en/products/detail/texas-instruments/TXS0102YZPR/1629105; ComponentLink2Description: Supplier link; HelpURL: https://www.ti.com/product/TXS0102; Footprint Doc: UFBGA-8; LatestRevisionDate: 2022-10-05; Published: 2022-10-05; Value: TXS0102YZPR; Supplier 1: Digi-Key; Supplier Part Number 1: 296-TXS0102YZPRCT-ND; Supplier 2: Mouser; Supplier Part Number 2: 595-TXS0102YZPR; Part number IPS: N.A.; Part number Norautron: N.A.; PartId: 101900724
footprint BGA8C50P2X4_89X189X50
pins: A1 B2 (io) "SDA_B", A2 B1 (io) "SCL_B", B1 GND (power), B2 VccB (power) "B port Vcc", C1 VccA (power) "A port power", C2 OE (in) "Enable (OE) with respect to VccA. Max 4.6V", D1 A2 (io) "SDA_A", D2 A1 (io) "SCL_A"

## TYPE-C 16P LTH6.8
designator U?
Manufacturer: SHOU HAN(首韩); Contributor: lcsc; Supplier: LCSC; Supplier Part: C5187468; Manufacturer Part: TYPE-C 16P LTH6.8; JLCPCB Part Class: Extended Part; spicePre: U; spiceSymbolName: TYPE-C 16P LTH6.8; LCSC: C5187468
footprint USB-C-SMD_TYPE-C-16P-LTH6.8
pins: 1 EH, 2 EH, 3 EH, 4 EH, A1 GND, A4 VBUS, A5 CC1, A6 DP1, A7 DN1, A8 SBU1, A9 VBUS, A12 GND, B1 GND, B4 VBUS, B5 CC2, B6 DP2, B7 DN2, B8 SBU2, B9 VBUS, B12 GND

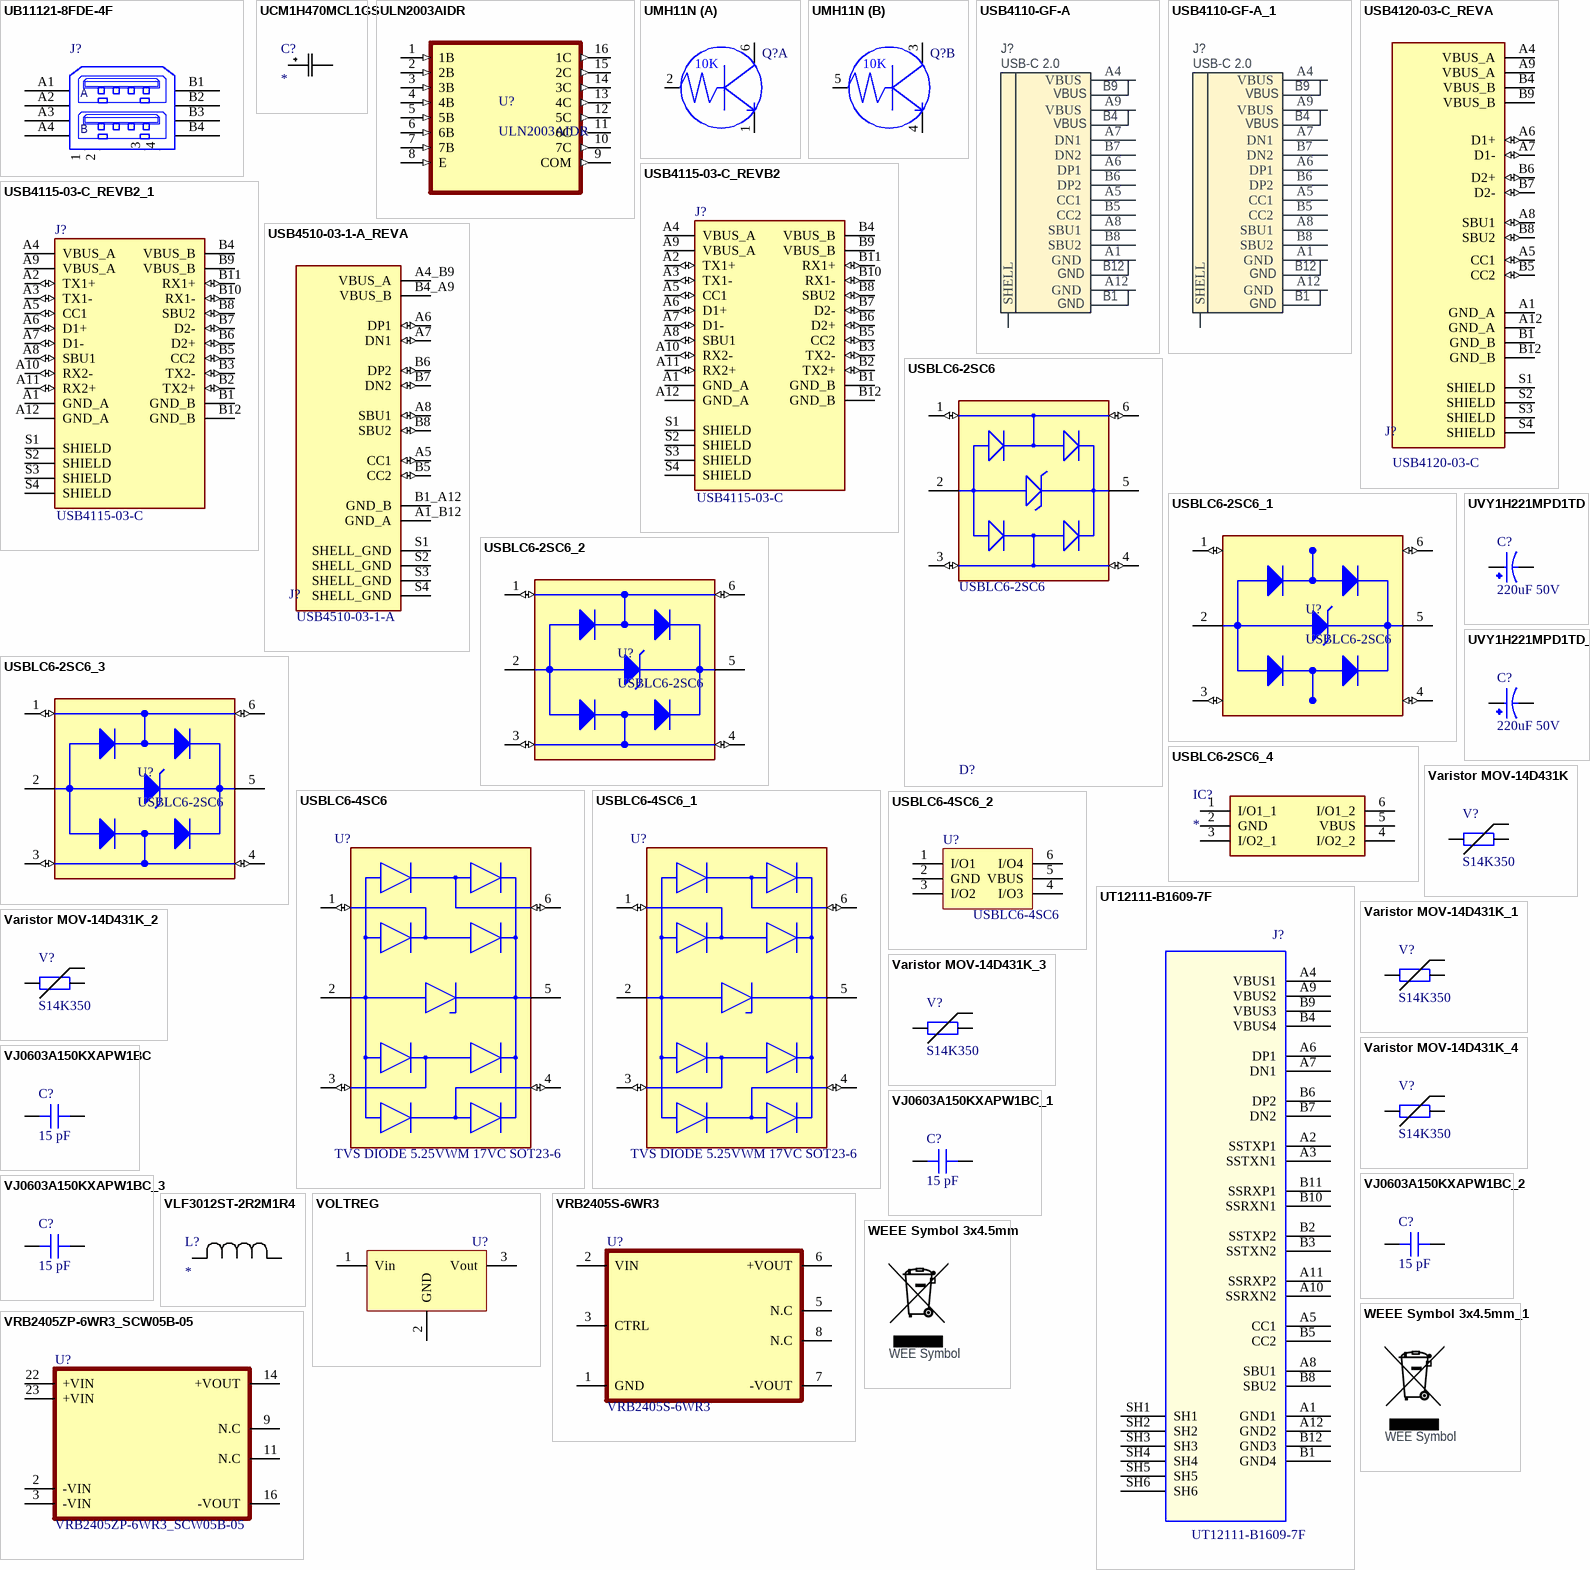
[diagram p61: symbols UB11121-8FDE-4F to WEEE Symbol 3x4.5mm_1]

## UB11121-8FDE-4F
designator J?  (value not drawn)
Connector,Double-USB A,Female,Right angle,4Pos,4.13mm,1u¡±MIN Gold Plate,-55~85¡æ,Foxconn; Myir P/N: 21121.00004; Datasheet: DUSB_A_Foxconn_UB11121-8FDE-4F.pdf; Reserve Value: UB11121-8FDE-4F; Manufacturer P/N: UB11121-8FDE-4F; Manufacturer: Foxconn; Part Type: USB Connector; PCB Footprint: UB11121-8FDE-4F
footprint CON_USBDUAL72309
footprint UB11121-8FDE-4F
pins: 1 BODY1, 2 BODY2, 3 BODY3, 4 BODY4, A1 VCC (power), A2 USBHMA, A3 USBHPA, A4 GND (power), B1 VCC (power), B2 USBHMB, B3 USBHPB, B4 GND (power)
text: A; B

## UCM1H470MCL1GS
designator C?
47 µF 50 V Aluminum Electrolytic Capacitors Radial, Can - SMD 2000 Hrs @ 105°C; Mfr_Name: Nichicon
footprint CAP_UCD_6P3X5P8_NCH
pins: 1, 2

## ULN2003AIDR
designator U?
50-V, 7-ch darlington transistor array, -40 to 105C; MF: Texas Instruments; SnapEDA_Link: https://www.snapeda.com/parts/ULN2003AIDR/Texas+Instruments/view-part/?ref=snap; Package: SOIC-16 Texas Instruments; Value: *; MP: ULN2003AIDR; Check_prices: https://www.snapeda.com/parts/ULN2003AIDR/Texas+Instruments/view-part/?ref=eda
footprint SOIC127P600X175-16N
pins: 1 1B (in), 2 2B (in), 3 3B (in), 4 4B (in), 5 5B (in), 6 6B (in), 7 7B (in), 8 E (in), 9 COM (out), 10 7C (out), 11 6C (out), 12 5C (out), 13 4C (out), 14 3C (out), 15 2C (out), 16 1C (out)

## UMH11N
designator Q?
footprint SOT-363
part A pins: 1 E, 2 B, 6 C
part B pins: 3 C, 4 E, 5 B
part A text: 10K
part B text: 10K

## USB4110-GF-A
designator J?, comment USB-C 2.0
USB-C Receptacle, 16 Pin, USB 2.0; Part Number: USB4110-GF-A; Manufacturer: Global Connector Technology; Part number NEMS: 100500735; Pad Count: 16; Note: N.A.; Component Status: Active; System: Connector; Component Class: Connectors; Manufacturer Part Number: USB4110-GF-A; ComponentLink1URL: https://gct.co/files/drawings/usb4110.pdf; ComponentLink1Description: Datasheet; ComponentLink2URL: https://www.digikey.com/en/products/detail/gct/USB4110-GF-A/10384547; ComponentLink2Description: Supplier link; HelpURL: https://gct.co/connector/usb4110; Footprint Doc: USB4110; LatestRevisionDate: 2021-12-06; Published: 2021-12-06; Value: USB-C 2.0; Supplier 1: Digi-Key; Supplier Part Number 1: 2073-USB4110-GF-A-1-ND; Supplier 2: N.A.; Supplier Part Number 2: N.A.; Artikkelnr Noca: N.A.; Part number IPS: N.A.; Author: rubr; Part number Norautron: N.A.; PartId: 100500735
footprint USB4110
pins: A1 GND (power), A4 VBUS (power), A5 CC1, A6 DP1, A7 DN1, A8 SBU1, A9 VBUS (power), A12 GND (power), B5 CC2, B6 DP2, B7 DN2, B8 SBU2, SHLD SHELL (power)
text: B9; B4; B12; B1

## USB4110-GF-A_1
designator J?, comment USB-C 2.0
USB-C Receptacle, 16 Pin, USB 2.0; Part Number: USB4110-GF-A; Manufacturer: Global Connector Technology; Part number NEMS: 100500735; Pad Count: 16; Note: N.A.; Component Status: Active; System: Connector; Component Class: Connectors; Manufacturer Part Number: USB4110-GF-A; ComponentLink1URL: https://gct.co/files/drawings/usb4110.pdf; ComponentLink1Description: Datasheet; ComponentLink2URL: https://www.digikey.com/en/products/detail/gct/USB4110-GF-A/10384547; ComponentLink2Description: Supplier link; HelpURL: https://gct.co/connector/usb4110; Footprint Doc: USB4110; LatestRevisionDate: 2021-12-06; Published: 2021-12-06; Value: USB-C 2.0; Supplier 1: Digi-Key; Supplier Part Number 1: 2073-USB4110-GF-A-1-ND; Supplier 2: N.A.; Supplier Part Number 2: N.A.; Artikkelnr Noca: N.A.; Part number IPS: N.A.; Author: rubr; Part number Norautron: N.A.; PartId: 100500735
footprint USB4110
pins: A1 GND (power), A4 VBUS (power), A5 CC1, A6 DP1, A7 DN1, A8 SBU1, A9 VBUS (power), A12 GND (power), B5 CC2, B6 DP2, B7 DN2, B8 SBU2, SHLD SHELL (power)
text: B9; B4; B12; B1

## USB4115-03-C_REVB2
designator J?, comment Manufacturer Part Number: USB4115-03-C  (hidden comment: CONN USB3.1 TYPE-C VERT SOCKET)
USB-C (USB TYPE-C) USB 3.2 Gen 2 (USB 3.1 Gen 2, Superspeed + (USB 3.1)) Receptacle Connector 24 Position Surface Mount, Through Hole; Order Code: Digi: 2073-USB4115-03-CTR-ND
footprint GCT_USB4115-03-C_REVB2
pins: A1 GND_A (power), A2 TX1+ (io), A3 TX1- (io), A4 VBUS_A (power), A5 CC1 (io), A6 D1+ (io), A7 D1- (io), A8 SBU1 (io), A9 VBUS_A (power), A10 RX2- (io), A11 RX2+ (io), A12 GND_A (power), B1 GND_B (power), B2 TX2+ (io), B3 TX2- (io), B4 VBUS_B (power), B5 CC2 (io), B6 D2+ (io), B7 D2- (io), B8 SBU2 (io), B9 VBUS_B (power), B10 RX1- (io), B11 RX1+ (io), B12 GND_B (power), S1 SHIELD, S2 SHIELD, S3 SHIELD, S4 SHIELD

## USB4115-03-C_REVB2_1
designator J?, comment Manufacturer Part Number: USB4115-03-C  (hidden comment: CONN USB3.1 TYPE-C VERT SOCKET)
USB-C (USB TYPE-C) USB 3.2 Gen 2 (USB 3.1 Gen 2, Superspeed + (USB 3.1)) Receptacle Connector 24 Position Surface Mount, Through Hole; Order Code: Digi: 2073-USB4115-03-CTR-ND
footprint GCT_USB4115-03-C_REVB2
pins: A1 GND_A (power), A2 TX1+ (io), A3 TX1- (io), A4 VBUS_A (power), A5 CC1 (io), A6 D1+ (io), A7 D1- (io), A8 SBU1 (io), A9 VBUS_A (power), A10 RX2- (io), A11 RX2+ (io), A12 GND_A (power), B1 GND_B (power), B2 TX2+ (io), B3 TX2- (io), B4 VBUS_B (power), B5 CC2 (io), B6 D2+ (io), B7 D2- (io), B8 SBU2 (io), B9 VBUS_B (power), B10 RX1- (io), B11 RX1+ (io), B12 GND_B (power), S1 SHIELD, S2 SHIELD, S3 SHIELD, S4 SHIELD

## USB4120-03-C_REVA
designator J?, comment Manufacturer Part Number: USB4120-03-C  (hidden comment: CONN RCPT USB2.0 TYP C 24POS SMD)
USB-C (USB TYPE-C) USB 2.0 Receptacle Connector 24 (16+8 Dummy) Position Surface Mount, Through Hole; Order Code: DIGI: 2073-USB4120-03-CTR-ND
footprint GCT_USB4120-03-C_REVA
pins: A1 GND_A (power), A4 VBUS_A (power), A5 CC1 (io), A6 D1+ (io), A7 D1- (io), A8 SBU1 (io), A9 VBUS_A (power), A12 GND_A (power), B1 GND_B (power), B4 VBUS_B (power), B5 CC2 (io), B6 D2+ (io), B7 D2- (io), B8 SBU2 (io), B9 VBUS_B (power), B12 GND_B (power), S1 SHIELD, S2 SHIELD, S3 SHIELD, S4 SHIELD

## USB4510-03-1-A_REVA
designator J?, comment Manufacturer Part Number: USB4510-03-1-A  (hidden comment: USB C REC 16P 3U" MID MNT 1.6MM)
USB-C (USB TYPE-C) USB 2.0 Receptacle Connector 24 (16+8 Dummy) Position Board Edge, Cutout; Surface Mount; Through Hole, Right Angle; Order Code: DIGI: 2073-USB4510-03-1-ATR-ND
footprint GCT_USB4510-03-1-A_REVA
pins: A1_B12 GND_A (power), A4_B9 VBUS_A (power), A5 CC1 (io), A6 DP1 (io), A7 DN1 (io), A8 SBU1 (io), B1_A12 GND_B (power), B4_A9 VBUS_B (power), B5 CC2 (io), B6 DP2 (io), B7 DN2 (io), B8 SBU2 (io), S1 SHELL_GND (power), S2 SHELL_GND (power), S3 SHELL_GND (power), S4 SHELL_GND (power)

## USBLC6-2SC6
designator D?, comment Manufacturer Part Number: USBLC6-2SC6  (hidden comment: TVS DIODE 5.25VWM 17VC SOT23-6)
17V Clamp 5A (8/20µs) Ipp Tvs Diode Surface Mount SOT-23-6; Order Code: DIGI: 497-5235-2-ND
footprint STMicroelectronics_SOT23-6L_IPC_A
footprint STMicroelectronics_SOT23-6L_IPC_B
footprint STMicroelectronics_SOT23-6L_IPC_C
footprint STMicroelectronics_SOT23-6L_MFG
pins: 1 I/O1 (io), 2 GND (power), 3 I/O2 (io), 4 I/O2 (io), 5 VBUS (power), 6 I/O1 (io)

## USBLC6-2SC6_1
designator U?, comment USBLC6-2SC6
17V Clamp 5A (8/20Âµs) Ipp Tvs Diode Surface Mount SOT-23-6; MF: STMicroelectronics; Value: *; SnapEDA_Link: https://www.snapeda.com/parts/USBLC6-2SC6/STMicroelectronics/view-part/?ref=snap; Check_prices: https://www.snapeda.com/parts/USBLC6-2SC6/STMicroelectronics/view-part/?ref=eda; Purchase-URL: https://pricing.snapeda.com/search/part/USBLC6-2SC6/?ref=eda; Price: None; Availability: In Stock; Package: SOT-23-6 STMicroelectronics; MP: USBLC6-2SC6; LCSC: C7519
footprint SOT95P280X145-6N
pins: 1 I/O1_IN (io), 2 GND (power), 3 I/O2_IN (io), 4 I/O2_OUT (io), 5 VBUS (power), 6 I/O1_OUT (io)

## USBLC6-2SC6_2
designator U?, comment USBLC6-2SC6
17V Clamp 5A (8/20Âµs) Ipp Tvs Diode Surface Mount SOT-23-6; MF: STMicroelectronics; Value: *; SnapEDA_Link: https://www.snapeda.com/parts/USBLC6-2SC6/STMicroelectronics/view-part/?ref=snap; Check_prices: https://www.snapeda.com/parts/USBLC6-2SC6/STMicroelectronics/view-part/?ref=eda; Purchase-URL: https://pricing.snapeda.com/search/part/USBLC6-2SC6/?ref=eda; Price: None; Availability: In Stock; Package: SOT-23-6 STMicroelectronics; MP: USBLC6-2SC6
footprint SOT95P280X145-6N
pins: 1 I/O1_IN (io), 2 GND (power), 3 I/O2_IN (io), 4 I/O2_OUT (io), 5 VBUS (power), 6 I/O1_OUT (io)

## USBLC6-2SC6_3
designator U?, comment USBLC6-2SC6
17V Clamp 5A (8/20Âµs) Ipp Tvs Diode Surface Mount SOT-23-6; MF: STMicroelectronics; Value: *; SnapEDA_Link: https://www.snapeda.com/parts/USBLC6-2SC6/STMicroelectronics/view-part/?ref=snap; Check_prices: https://www.snapeda.com/parts/USBLC6-2SC6/STMicroelectronics/view-part/?ref=eda; Purchase-URL: https://pricing.snapeda.com/search/part/USBLC6-2SC6/?ref=eda; Price: None; Availability: In Stock; Package: SOT-23-6 STMicroelectronics; MP: USBLC6-2SC6
footprint SOT95P280X145-6N
pins: 1 I/O1_IN (io), 2 GND (power), 3 I/O2_IN (io), 4 I/O2_OUT (io), 5 VBUS (power), 6 I/O1_OUT (io)

## USBLC6-2SC6_4
designator IC?
Integrated Circuit; Manufacturer_Name: STMicroelectronics; Manufacturer_Part_Number: USBLC6-2SC6; Datasheet Link: https://www.st.com/resource/en/datasheet/usblc6-2.pdf; Height: 1.45mm; Mouser Part Number: 511-USBLC6-2SC6; Mouser Price/Stock: https://www.mouser.co.uk/ProductDetail/STMicroelectronics/USBLC6-2SC6?qs=po45yt2pPpu%2FhNIlwQdTlg%3D%3D; Arrow Part Number: USBLC6-2SC6; Arrow Price/Stock: https://www.arrow.com/en/products/usblc6-2sc6/stmicroelectronics.html?utm_currency=USD&region=nac
footprint SOT95P280X145-6N
pins: 1 I/O1_1, 2 GND, 3 I/O2_1, 4 I/O2_2, 5 VBUS, 6 I/O1_2

## USBLC6-4SC6
designator U?, comment TVS DIODE 5.25VWM 17VC SOT23-6
17V Clamp 5A (8/20µs) Ipp Tvs Diode Surface Mount SOT-23-6; Manufacturer Part Number: USBLC6-4SC6; Order Code: Digi: 497-4492-2-ND; LCSC Manufacturer Part NUmber: USBLC6-4SC6; LCSC Part Number: C111212
footprint SOT95P280X145-6N
pins: 1 I/O1 (io), 2 GND, 3 I/O2 (io), 4 I/O3 (io), 5 VP (power), 6 I/O4 (io)

## USBLC6-4SC6_1
designator U?, comment TVS DIODE 5.25VWM 17VC SOT23-6
17V Clamp 5A (8/20µs) Ipp Tvs Diode Surface Mount SOT-23-6; Manufacturer Part Number: USBLC6-4SC6; Order Code: Digi: 497-4492-2-ND; LCSC Manufacturer Part NUmber: USBLC6-4SC6; LCSC Part Number: C111212
footprint SOT95P280X145-6N
pins: 1 I/O1 (io), 2 GND, 3 I/O2 (io), 4 I/O3 (io), 5 VP (power), 6 I/O4 (io)

## USBLC6-4SC6_2
designator U?, comment USBLC6-4SC6
Very low capacitance ESD protection , 4 lines; Internal_Part_Number: MCD-00250; Part_Type: IC; Manufacturer: STMICROELECTRONICS; BMS_Part_Number: 9151001; Provided_By: SUBCO with ST control; ECCN_US: EAR99; ECCN_EU: NEC; Status: Released; Manufacturer Part Number: USBLC6-4SC6; ComponentLink1Description: Datasheet; ComponentLink1URL: http://tunmcdsvn.tun.st.com/Component_Datasheet_Library/Trunk/Diodes/STM_ESD_USBLC6-4SC6; Value: USBLC6-4SC6
footprint SOT23-6L
pins: 1 I/O1, 2 GND, 3 I/O2, 4 I/O3, 5 VBUS, 6 I/O4

## UT12111-B1609-7F
designator J?
Connector,USB C,24Pin,¨C25¡æ~£«85¡æ,SMT,Foxconn; CLASS: IO; Myir P/N: 21107.00017; Datasheet: USB_C_Foxconn_UT12111-B1609-7F_.pdf; Reserve Value: UT12111-B1609-7F; Manufacturer P/N: UT12111-B1609-7F; Manufacturer: Foxconn; Part Type: USB Connector; PCB Footprint: UT12111-B1609-7F
footprint UT12111-B1609-7F
pins: A1 GND1 (power), A2 SSTXP1, A3 SSTXN1, A4 VBUS1, A5 CC1, A6 DP1, A7 DN1, A8 SBU1, A9 VBUS2, A10 SSRXN2, A11 SSRXP2, A12 GND2 (power), B1 GND4 (power), B2 SSTXP2, B3 SSTXN2, B4 VBUS4, B5 CC2, B6 DP2, B7 DN2, B8 SBU2, B9 VBUS3, B10 SSRXN1, B11 SSRXP1, B12 GND3 (power), SH1 (power), SH2 (power), SH3 (power), SH4 (power), SH5 (power), SH6 (power)

## UVY1H221MPD1TD
designator C?  value 220uF 50V  (hidden comment: UVY1H221MPD1TD)
220 µF 50 V Aluminum Electrolytic Capacitors Radial, Can 2000 Hrs @ 105°C; Order Code: Digi: 493-12916-1-ND; Manufacturer Part Number: UVY1H221MPD1TD; LCSC Manufacturer Part Number: UVY1H221MPD1TD; LCSC Part Number: C340752
footprint CAP_RN_10X12P5_NCH
pins: 1, 2

## UVY1H221MPD1TD_1
designator C?, comment value 220uF 50V  (hidden comment: UVY1H221MPD1TD)
220 µF 50 V Aluminum Electrolytic Capacitors Radial, Can 2000 Hrs @ 105°C; Order Code: Digi: 493-12916-1-ND; Manufacturer Part Number: UVY1H221MPD1TD; LCSC Manufacturer Part Number: UVY1H221MPD1TD; LCSC Part Number: C340752
footprint CAP_RN_10X12P5_NCH
pins: 1, 2

## Varistor MOV-14D431K
designator V?, comment value S14K350  (hidden comment: MOV-14D431KTR)
VARISTOR 430V 4.5KA DISC 14MM; Manufacturer: Bourns Inc.; Manufacturer Part Number: MOV-14D431KTR; Supplier Part Number: 118-MOV-14D431KTRCT-ND
footprint Ø16.5x5.2mm (MOV-14D431KTR)
pins: 1, 2

## Varistor MOV-14D431K_1
designator V?, comment value S14K350  (hidden comment: MOV-14D431KTR)
VARISTOR 430V 4.5KA DISC 14MM; Manufacturer: Bourns Inc.; Manufacturer Part Number: MOV-14D431KTR; Supplier Part Number: 118-MOV-14D431KTRCT-ND
footprint Ø16.5x5.2mm (MOV-14D431KTR)
pins: 1, 2

## Varistor MOV-14D431K_2
designator V?, comment value S14K350  (hidden comment: MOV-14D431KTR)
VARISTOR 430V 4.5KA DISC 14MM; Manufacturer: Bourns Inc.; Manufacturer Part Number: MOV-14D431KTR; Supplier Part Number: 118-MOV-14D431KTRCT-ND
footprint Ø16.5x5.2mm (MOV-14D431KTR)
pins: 1, 2

## Varistor MOV-14D431K_3
designator V?, comment value S14K350  (hidden comment: MOV-14D431KTR)
VARISTOR 430V 4.5KA DISC 14MM; Manufacturer: Bourns Inc.; Manufacturer Part Number: MOV-14D431KTR; Supplier Part Number: 118-MOV-14D431KTRCT-ND
footprint Ø16.5x5.2mm (MOV-14D431KTR)
pins: 1, 2

## Varistor MOV-14D431K_4
designator V?, comment value S14K350  (hidden comment: MOV-14D431KTR)
VARISTOR 430V 4.5KA DISC 14MM; Manufacturer: Bourns Inc.; Manufacturer Part Number: MOV-14D431KTR; Supplier Part Number: 118-MOV-14D431KTRCT-ND
footprint Ø16.5x5.2mm (MOV-14D431KTR)
pins: 1, 2

## VJ0603A150KXAPW1BC
designator C?, comment 15 pF
CAP CER 15PF 50V C0G/NP0 0603; Part Number: VJ0603A150KXAPW1BC; manufacturer: Vishay Vitramon; Temperature Coefficient: C0G, NP0; Tolerance: ±10%; Applications: General Purpose; Capacitance: 15 pF; componentlink1description: Datasheet; componentlink1url: https://www.vishay.com/docs/28548/vjw1bcbascomseries.pdf; componentlink2description: DigiKey Link; componentlink2url: https://www.digikey.com/en/products/detail/vishay-vitramon/VJ0603A150KXAPW1BC/8303121; Device Package: 0603 (1608 Metric); lastupdated: 2/9/2024 8:09:54 PM; Lifecycle Status: Active; Minimum Order: 15000; Mounting Type: Surface Mount, MLCC; Operating Temperature: -55°C ~ 125°C; Package / Case: 0603 (1608 Metric); packaging: TapeAndReel; partid: 34612; Part Status: Active; price: 0.01; series: VJ W1BC; Size / Dimension: 0.063" L x 0.031" W (1.60mm x 0.80mm); Supplier 1: DigiKey; Supplier Part Number 1: 720-VJ0603A150KXAPW1BCTR-ND; Thickness (Max): 0.034" (0.87mm); Voltage - Rated: 50V; Value: 15 pF
footprint CAP 0603_1608
pins: 1, 2

## VJ0603A150KXAPW1BC_1
designator C?, comment 15 pF
CAP CER 15PF 50V C0G/NP0 0603; Part Number: VJ0603A150KXAPW1BC; manufacturer: Vishay Vitramon; Temperature Coefficient: C0G, NP0; Tolerance: ±10%; Applications: General Purpose; Capacitance: 15 pF; componentlink1description: Datasheet; componentlink1url: https://www.vishay.com/docs/28548/vjw1bcbascomseries.pdf; componentlink2description: DigiKey Link; componentlink2url: https://www.digikey.com/en/products/detail/vishay-vitramon/VJ0603A150KXAPW1BC/8303121; Device Package: 0603 (1608 Metric); lastupdated: 2/9/2024 8:09:54 PM; Lifecycle Status: Active; Minimum Order: 15000; Mounting Type: Surface Mount, MLCC; Operating Temperature: -55°C ~ 125°C; Package / Case: 0603 (1608 Metric); packaging: TapeAndReel; partid: 34612; Part Status: Active; price: 0.01; series: VJ W1BC; Size / Dimension: 0.063" L x 0.031" W (1.60mm x 0.80mm); Supplier 1: DigiKey; Supplier Part Number 1: 720-VJ0603A150KXAPW1BCTR-ND; Thickness (Max): 0.034" (0.87mm); Voltage - Rated: 50V; Value: 15 pF
footprint CAP 0603_1608
pins: 1, 2

## VJ0603A150KXAPW1BC_2
designator C?, comment 15 pF
CAP CER 15PF 50V C0G/NP0 0603; Part Number: VJ0603A150KXAPW1BC; manufacturer: Vishay Vitramon; Temperature Coefficient: C0G, NP0; Tolerance: ±10%; Applications: General Purpose; Capacitance: 15 pF; componentlink1description: Datasheet; componentlink1url: https://www.vishay.com/docs/28548/vjw1bcbascomseries.pdf; componentlink2description: DigiKey Link; componentlink2url: https://www.digikey.com/en/products/detail/vishay-vitramon/VJ0603A150KXAPW1BC/8303121; Device Package: 0603 (1608 Metric); lastupdated: 2/9/2024 8:09:54 PM; Lifecycle Status: Active; Minimum Order: 15000; Mounting Type: Surface Mount, MLCC; Operating Temperature: -55°C ~ 125°C; Package / Case: 0603 (1608 Metric); packaging: TapeAndReel; partid: 34612; Part Status: Active; price: 0.01; series: VJ W1BC; Size / Dimension: 0.063" L x 0.031" W (1.60mm x 0.80mm); Supplier 1: DigiKey; Supplier Part Number 1: 720-VJ0603A150KXAPW1BCTR-ND; Thickness (Max): 0.034" (0.87mm); Voltage - Rated: 50V; Value: 15 pF
footprint CAP 0603_1608
pins: 1, 2

## VJ0603A150KXAPW1BC_3
designator C?, comment 15 pF
CAP CER 15PF 50V C0G/NP0 0603; Part Number: VJ0603A150KXAPW1BC; manufacturer: Vishay Vitramon; Temperature Coefficient: C0G, NP0; Tolerance: ±10%; Applications: General Purpose; Capacitance: 15 pF; componentlink1description: Datasheet; componentlink1url: https://www.vishay.com/docs/28548/vjw1bcbascomseries.pdf; componentlink2description: DigiKey Link; componentlink2url: https://www.digikey.com/en/products/detail/vishay-vitramon/VJ0603A150KXAPW1BC/8303121; Device Package: 0603 (1608 Metric); lastupdated: 2/9/2024 8:09:54 PM; Lifecycle Status: Active; Minimum Order: 15000; Mounting Type: Surface Mount, MLCC; Operating Temperature: -55°C ~ 125°C; Package / Case: 0603 (1608 Metric); packaging: TapeAndReel; partid: 34612; Part Status: Active; price: 0.01; series: VJ W1BC; Size / Dimension: 0.063" L x 0.031" W (1.60mm x 0.80mm); Supplier 1: DigiKey; Supplier Part Number 1: 720-VJ0603A150KXAPW1BCTR-ND; Thickness (Max): 0.034" (0.87mm); Voltage - Rated: 50V; Value: 15 pF
footprint CAP 0603_1608
pins: 1, 2

## VLF3012ST-2R2M1R4
designator L?
No Description Available; Mfr_Name: TDK
pins: 1, 2

## VOLTREG
designator U?
footprint NCP1117
pins: 1 Vin, 2 GND, 3 Vout

## VRB2405S-6WR3
designator U?
footprint VRB2405S-6WR3
pins: 1 GND, 2 VIN, 3 CTRL, 5 N.C, 6 +VOUT, 7 -VOUT, 8 N.C

## VRB2405ZP-6WR3_SCW05B-05
designator U?
footprint VRB2405ZP-6WR3 (Power Supply / Mean Well)
pins: 2 -VIN, 3 -VIN, 9 N.C, 11 N.C, 14 +VOUT, 16 -VOUT, 22 +VIN, 23 +VIN

## WEEE Symbol 3x4.5mm
designator LOGO?, comment WEE Symbol  (no BOM)
WEEE Directive symbol; Part Number: WEEE Symbol 3x4.5mm; Manufacturer: N.A.; Part number NEMS: 101100006; Component Status: Active; Pad Count: 0; PartId: 101100006; Component Class: Markings; Author: rsk; Manufacturer Part Number: N.A.; ComponentLink1URL: N.A.; ComponentLink1Description: Datasheet; ComponentLink2URL: N.A.; ComponentLink2Description: Supplier link; HelpURL: N.A.; LatestRevisionDate: 2023-03-07; Published: 2016-09-07; Footprint Doc: WEE_3x4.5mm; Value: WEE Symbol; Note: N.A.; Supplier 1: N.A.; Supplier Part Number 1: N.A.; Supplier 2: N.A.; Supplier Part Number 2: N.A.; Artikkelnr Noca: N.A.; Part number IPS: N.A.; Part number Norautron: N.A.
footprint WEE_3x4.5mm

## WEEE Symbol 3x4.5mm_1
designator LOGO?, comment WEE Symbol  (no BOM)
WEEE Directive symbol; Part Number: WEEE Symbol 3x4.5mm; Manufacturer: N.A.; Part number NEMS: 101100006; Component Status: Active; Pad Count: 0; PartId: 101100006; Component Class: Markings; Author: rsk; Manufacturer Part Number: N.A.; ComponentLink1URL: N.A.; ComponentLink1Description: Datasheet; ComponentLink2URL: N.A.; ComponentLink2Description: Supplier link; HelpURL: N.A.; LatestRevisionDate: 2023-03-07; Published: 2016-09-07; Footprint Doc: WEE_3x4.5mm; Value: WEE Symbol; Note: N.A.; Supplier 1: N.A.; Supplier Part Number 1: N.A.; Supplier 2: N.A.; Supplier Part Number 2: N.A.; Artikkelnr Noca: N.A.; Part number IPS: N.A.; Part number Norautron: N.A.
footprint WEE_3x4.5mm

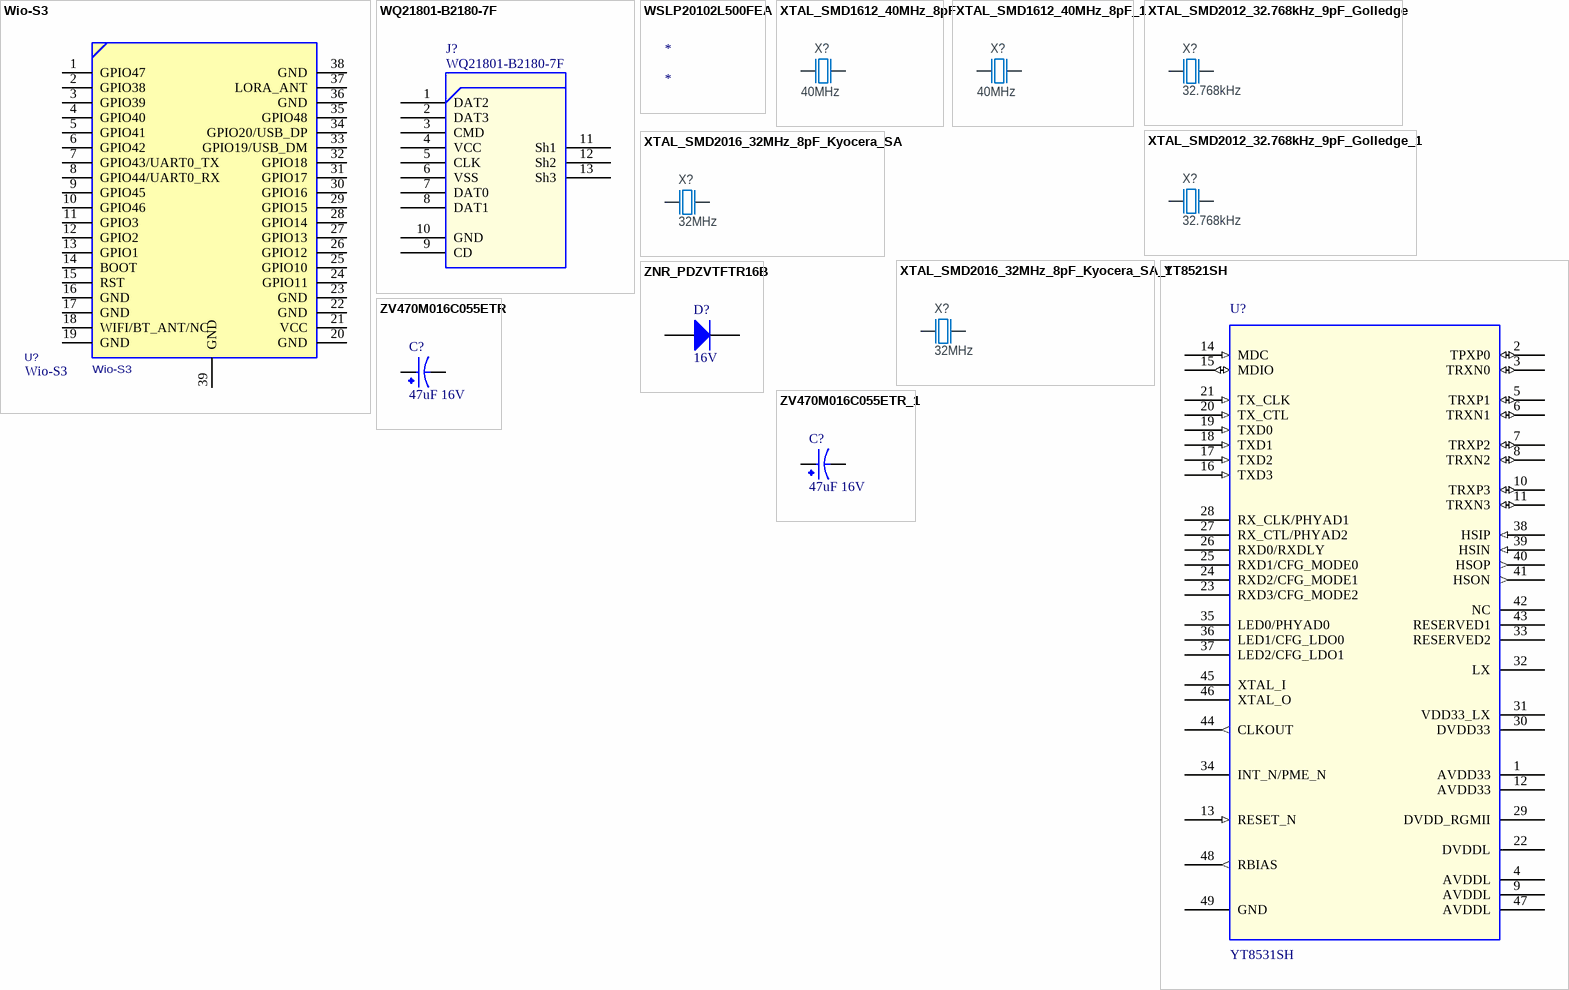
[diagram p62: symbols Wio-S3 to ZV470M016C055ETR_1]

## Wio-S3
designator U?
Wio-S3 Wireless Module with IPEX, ESP32-S3R8, Dual-core Xtensa® LX7 and SX1262 embedded, LoRaWAN, Wi-Fi & BLE, supports EU868 & US915; Manufacturer: Seeed studio; ComponentLink1Description: Link; ComponentLink1URL: https://www.seeedstudio.com/Wio-S3-Wireless-Module-p-6832.html?srsltid=AfmBOop3z2puFIgpzJuIDsBW-HEr5_UZiePaRCy9CC_ZfHXp9n51kjKs; MPN: Wio-S3; Value: Wio-S3
footprint Wio-S3 Wireless Module
pins: 1 GPIO47, 2 GPIO38, 3 GPIO39, 4 GPIO40, 5 GPIO41, 6 GPIO42, 7 GPIO43/UART0_TX, 8 GPIO44/UART0_RX, 9 GPIO45, 10 GPIO46, 11 GPIO3, 12 GPIO2, 13 GPIO1, 14 BOOT, 15 RST, 16 GND, 17 GND, 18 WIFI/BT_ANT/NC, 19 GND, 20 GND, 21 VCC, 22 GND, 23 GND, 24 GPIO11, 25 GPIO10, 26 GPIO12, 27 GPIO13, 28 GPIO14, 29 GPIO15, 30 GPIO16, 31 GPIO17, 32 GPIO18, 33 GPIO19/USB_DM, 34 GPIO20/USB_DP, 35 GPIO48, 36 GND, 37 LORA_ANT, 38 GND, 39 GND

## WQ21801-B2180-7F
designator J?
Connector,Micro SD Card,8Pin,gold flash,Black,-25~85¡æ,SMT,Foxconn; Myir P/N: 21112.00009; Mark: 1; PCB Footprint: WQ21801-B2180-7F; Datasheet: SD_Foxconn_WQ21801-B2180-7F.pdf; Reserve Value: WQ21801-B2180-7F; Manufacturer P/N: WQ21801-B2180-7F; Manufacturer: Foxconn; Part Type: Card Connector
footprint WQ21801-B2180-7F
pins: 1 DAT2, 2 DAT3, 3 CMD, 4 VCC, 5 CLK, 6 VSS, 7 DAT0, 8 DAT1, 9 CD, 10 GND, 11 Sh1, 12 Sh2, 13 Sh3

## WSLP20102L500FEA
designator *
CURRENT SENSE, RESISTOR, WSLP2010.00251%EAe3 | Vishay Dale WSLP20102L500FEA; Supplier 1: Digikey; Manufacturer: Vishay Dale; Manufacturer Part Number: WSLP20102L500FEA; Category: Chip SMD Resistors; Stock 1: 33384; Pricing 1: 1=0.82, 10=0.65, 25=0.5872, 50=0.5284, 100=0.4364, 250=0.41096, 500=0.33268, 1000=0.26907 (USD); RoHS Compliant: Yes; Supplier Part Number 1: 541-WSLP20102L500FEACT-ND
footprint RESC5125X89N

## XTAL_SMD1612_40MHz_8pF
designator X?, comment 40MHz
XTAL SMD 1612, 40MHz, Cl=8pF, Total Tol: ±10ppm; Part Number: XTAL_SMD1612_40MHz_8pF; Manufacturer: Abracon Corporation; Manufacturer Part Number: ABM12W-40.0000MHZ-8-B1U-T3; Part number NEMS: 101600095; Pad Count: 4; Note: XTAL SMD 40.000MHz 8pF; Artikkelnr Noca: N.A.; Component Status: Active; Component Class: Oscillators; Author: prbu; ComponentLink1URL: https://www.digikey.com/en/products/detail/abracon-llc/ABM12W-40-0000MHZ-8-B1U-T3/7172762; ComponentLink1Description: Datasheet; ComponentLink2URL: https://www.mouser.com/ProductDetail/ABRACON/ABM12W-400000MHZ-8-B1U-T3?qs=5aG0NVq1C4xvMMZKQsjLcA%3D%3D; ComponentLink2Description: Supplier link; HelpURL: N.A.; Footprint Doc: XTAL_1612; LatestRevisionDate: 2022-01-20; Published: 2022-01-20; Value: 40MHz; Supplier 1: Digi-Key; Supplier Part Number 1: 535-13991-2-ND; Supplier 2: N.A.; Supplier Part Number 2: N.A.; Part number IPS: N.A.; Part number Norautron: N.A.; PartId: 101600095
footprint BT-XTAL_1612
pins: 1 inp, 2 GND hidden to GND, 3 out, 4 GND hidden to GND